# Altium schematic symbol library Quadcopter.SchLib: 23 symbols
Pins are listed as number, name and electrical type; pins without a type are passive.

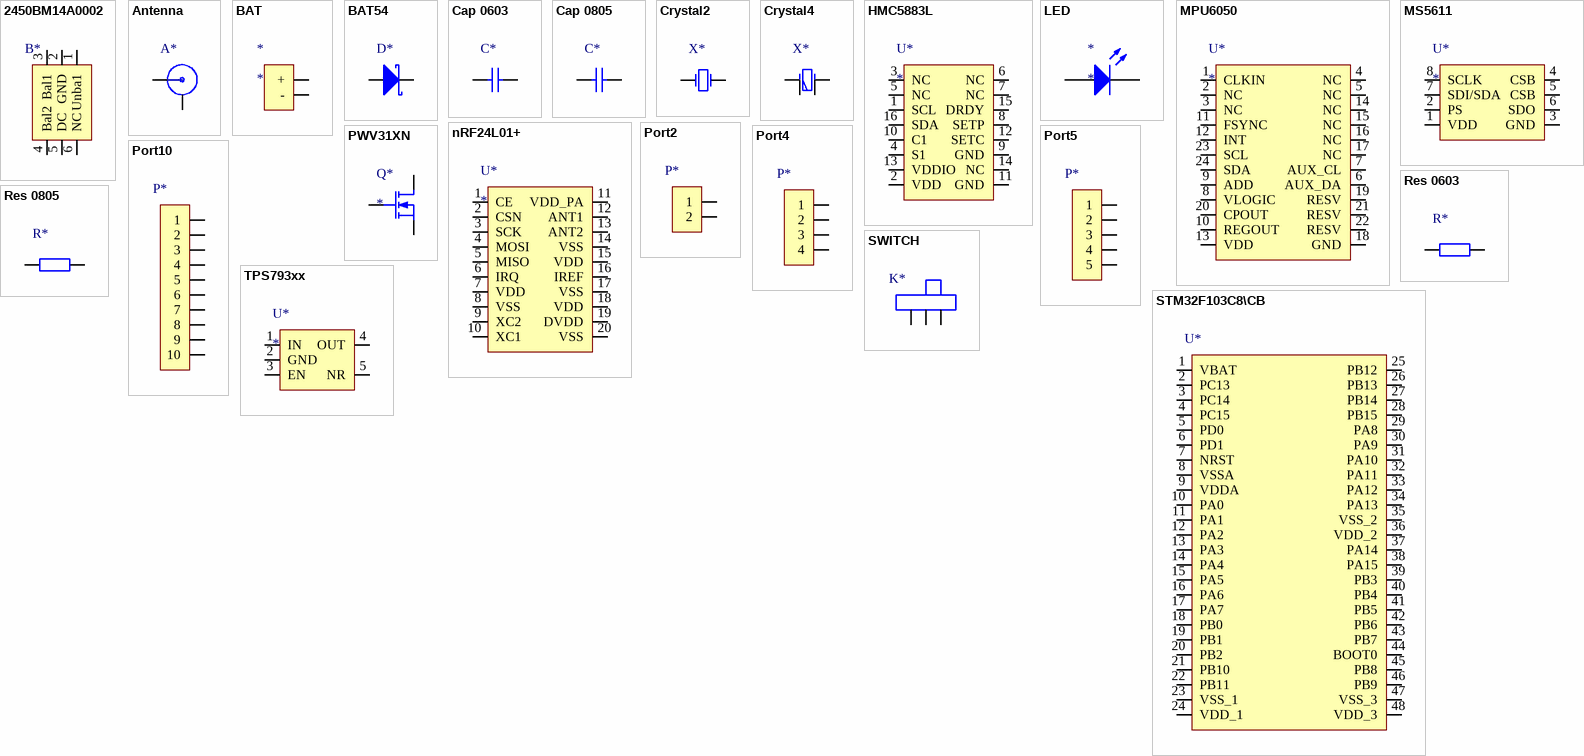
[diagram p0: symbols 2450BM14A0002 to TPS793xx]

## 2450BM14A0002
designator B*  (value not drawn)
pins: 1 Unba1, 2 GND, 3 Bal1, 4 Bal2, 5 DC, 6 NC

## Antenna
designator A*  (value not drawn)
pins: 1, 2 GND

## BAT
designator *
pins: 1 +, 2 -

## BAT54
designator D*  (value not drawn)
pins: 1 A, 2 K

## Cap 0603
designator C*  (value not drawn)
pins: 1, 2
3 alternate drawings of the same symbol

## Cap 0805
designator C*  (value not drawn)
pins: 1, 2

## Crystal2
designator X*  (value not drawn)
pins: 1 OSC1, 2 OSC2

## Crystal4
designator X*  (value not drawn)
pins: 1 OSC1, 2 OSC2, 3 GND, 4 GND

## HMC5883L
designator U*
pins: 1 SCL, 2 VDD, 3 NC, 4 S1, 5 NC, 6 NC, 7 NC, 8 SETP, 9 GND, 10 C1, 11 GND, 12 SETC, 13 VDDIO, 14 NC, 15 DRDY, 16 SDA

## LED
designator *
pins: 1 A, 2 K

## MPU6050
designator U*
pins: 1 CLKIN, 2 NC, 3 NC, 4 NC, 5 NC, 6 AUX_DA, 7 AUX_CL, 8 VLOGIC, 9 ADD, 10 REGOUT, 11 FSYNC, 12 INT, 13 VDD, 14 NC, 15 NC, 16 NC, 17 NC, 18 GND, 19 RESV, 20 CPOUT, 21 RESV, 22 RESV, 23 SCL, 24 SDA

## MS5611
designator U*
pins: 1 VDD, 2 PS, 3 GND, 4 CSB, 5 CSB, 6 SDO, 7 SDI/SDA, 8 SCLK

## nRF24L01+
designator U*
pins: 1 CE, 2 CSN, 3 SCK, 4 MOSI, 5 MISO, 6 IRQ, 7 VDD, 8 VSS, 9 XC2, 10 XC1, 11 VDD_PA, 12 ANT1, 13 ANT2, 14 VSS, 15 VDD, 16 IREF, 17 VSS, 18 VDD, 19 DVDD, 20 VSS

## Port2
designator P*  (value not drawn)
pins: 1, 2

## Port4
designator P*  (value not drawn)
pins: 1, 2, 3, 4

## Port5
designator P*  (value not drawn)
pins: 1, 2, 3, 4, 5

## Port10
designator P*  (value not drawn)
pins: 1, 2, 3, 4, 5, 6, 7, 8, 9, 10

## PWV31XN
designator Q*
pins: 1 D, 2 G, 3 S

## Res 0603
designator R*  (value not drawn)
pins: 1, 2

## Res 0805
designator R*  (value not drawn)
pins: 1, 2

## STM32F103C8\CB
designator U*
pins: 1 VBAT, 2 PC13, 3 PC14, 4 PC15, 5 PD0, 6 PD1, 7 NRST, 8 VSSA, 9 VDDA, 10 PA0, 11 PA1, 12 PA2, 13 PA3, 14 PA4, 15 PA5, 16 PA6, 17 PA7, 18 PB0, 19 PB1, 20 PB2, 21 PB10, 22 PB11, 23 VSS_1, 24 VDD_1, 25 PB12, 26 PB13, 27 PB14, 28 PB15, 29 PA8, 30 PA9, 31 PA10, 32 PA11, 33 PA12, 34 PA13, 35 VSS_2, 36 VDD_2, 37 PA14, 38 PA15, 39 PB3, 40 PB4, 41 PB5, 42 PB6, 43 PB7, 44 BOOT0, 45 PB8, 46 PB9, 47 VSS_3, 48 VDD_3

## SWITCH
designator K*  (value not drawn)
pins: 1, 2, 3

## TPS793xx
designator U*
pins: 1 IN, 2 GND, 3 EN, 4 OUT, 5 NR